# Altium footprint library ACTION_分立元件.PcbLib: 65 footprints (part 4 of 5)
Each footprint in its own frame and in the unit in brackets; x right, y up, seen from the top. Pads: shape width x height; smd on the part's side, far side on the other; paste and mask are expansions set on the pad; w line width, h text height; cw(c..) or ccw(c..) is an arc to the next point about the centre after c.
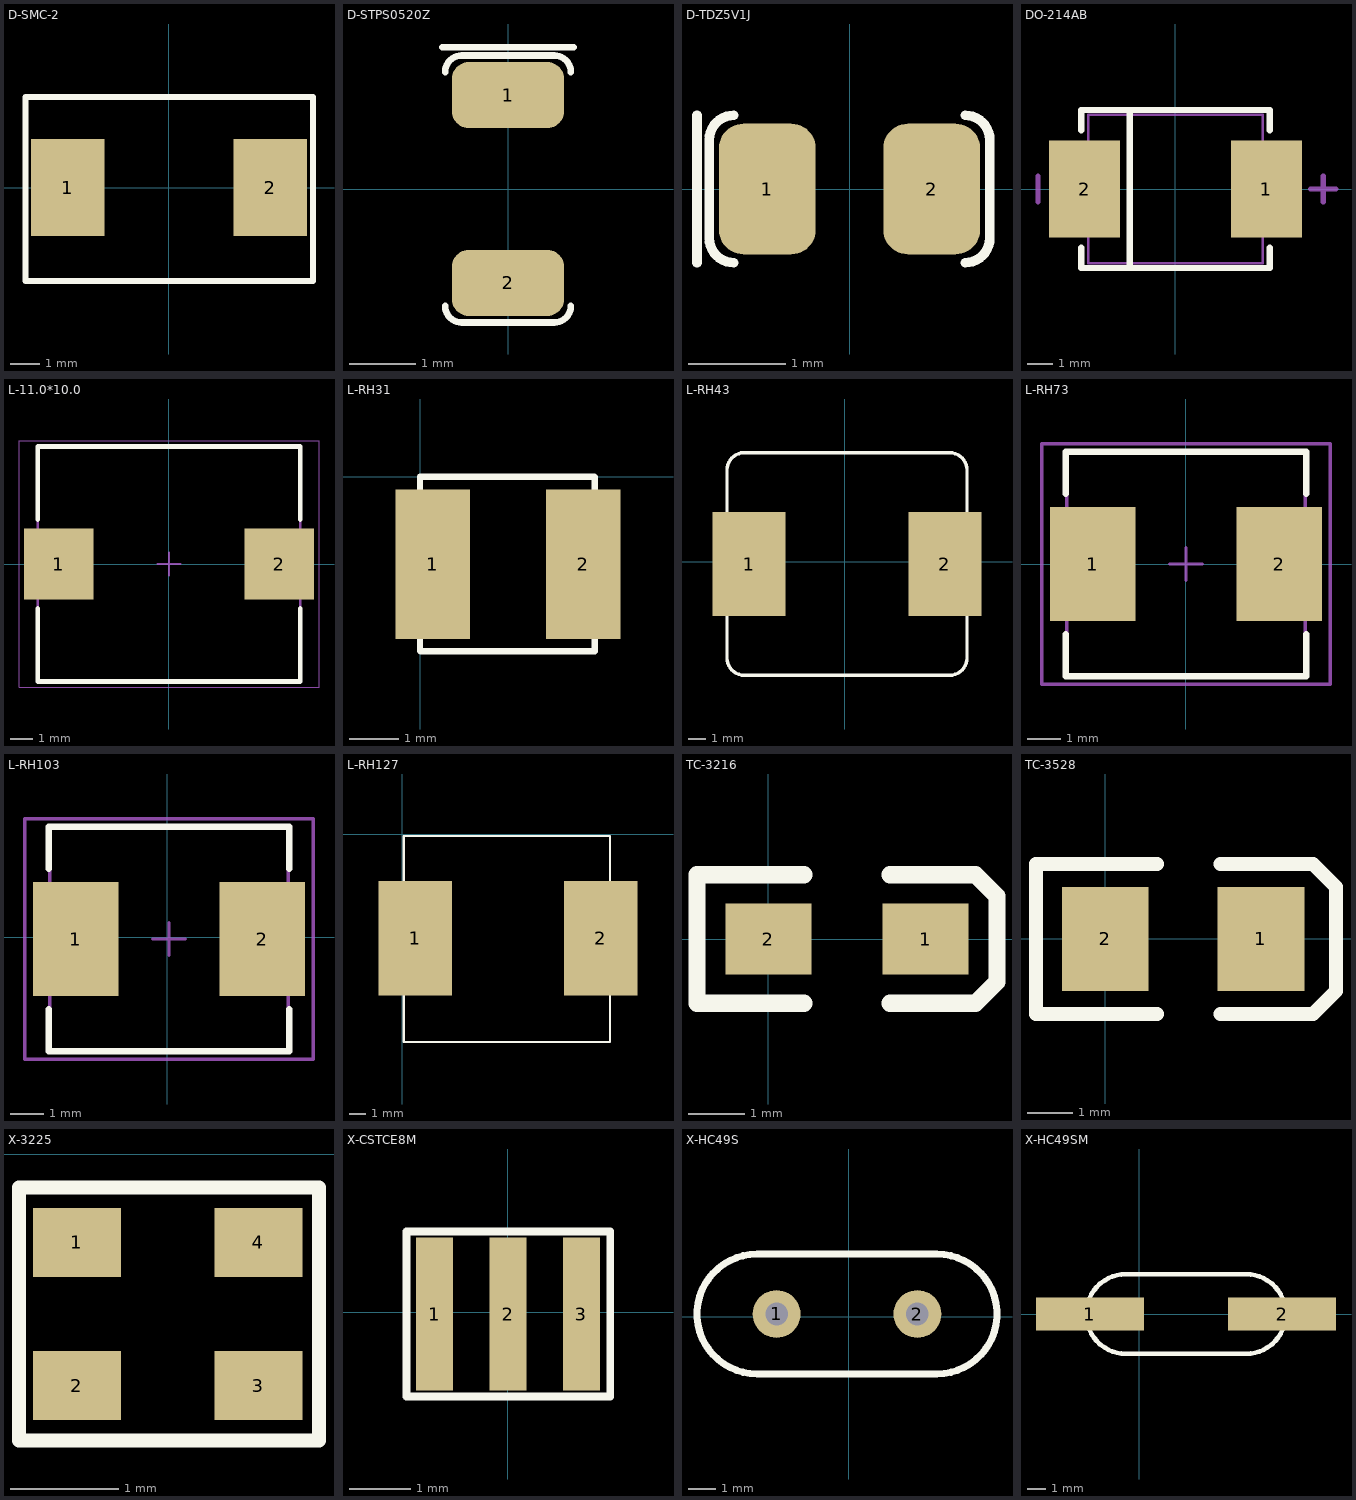
[diagram p3: the footprints below, top view; thin cyan lines are the x and y axes]

## D-SMC-2 [mm]
pads (2):
  rect 2.5x3.3 smd: 1(-3.45,0) 2(3.45,0)
Top Overlay:
  lines w0.2: -4.877,-3.175 4.902,-3.175 4.902,3.073 -4.877,3.073 -4.877,-1.6 -4.877,-3.175
3D body "DO214 SMC.STEP": height 2.27, standoff -0.03, extent -3.899,-3.001 4.051,2.899

## D-STPS0520Z [mm] "肖特基二极管"
pads (2):
  rrect50% 1.7x1 smd: 1(0,1.425) 2(0,-1.425)
Top Overlay:
  lines w0.1: -1,2.152 1,2.152 ; -0.954,-1.771 ccw(c-0.7,-1.771) -0.7,-2.025 0.7,-2.025 ccw(c0.7,-1.771) 0.954,-1.771 ; -0.954,1.771 cw(c-0.7,1.771) -0.7,2.025 0.7,2.025 cw(c0.7,1.771) 0.954,1.771

## D-TDZ5V1J [mm]
pads (2):
  rrect50% 1x1.35 smd: 1(-0.85,0) 2(0.85,0)
Top Overlay:
  lines w0.1: -1.577,-0.762 -1.577,0.762 ; -1.196,-0.762 cw(c-1.196,-0.508) -1.45,-0.508 -1.45,0.508 cw(c-1.196,0.508) -1.196,0.762 ; 1.196,-0.762 ccw(c1.196,-0.508) 1.45,-0.508 1.45,0.508 ccw(c1.196,0.508) 1.196,0.762

## DO-214AB [mil]
pads (2):
  rect 110x150 smd: 1(140.49,0) 2(-140.49,0)
Top Overlay:
  lines w10: -145.67,-90.55 -145.67,-122.05 145.67,-122.05 145.67,-90.55 ; -145.67,90.55 -145.67,122.05 145.67,122.05 145.67,90.55 ; -70.87,-122.05 -70.87,122.05
Mechanical 13:
  lines w3.94: -135.04,-114.96 135.04,-114.96 135.04,114.96 -135.04,114.96 -135.04,-114.96
Mechanical 15:
  lines w8: -212.6,-19.68 -212.6,19.69 ; 208.66,0 248.03,0 ; 228.35,-19.68 228.35,19.69
3D body "SW3dPS-DO-214AB SMC.STEP": height 89.47, standoff -1.18, extent -156.5,-116.13 156.5,116.15

## L-11.0*10.0 [mm] "Precision Wire Wound Inductor, 2-Leads, Body 11.25x10.00mm, IPC Medium Density"
height 5
pads (2):
  rect 3.05x3.1 smd: 1(-4.825,0) 2(4.825,0)
Top Overlay:
  lines w0.2: -5.75,-1.95 -5.75,-5.15 5.75,-5.15 5.75,-1.95 ; -5.75,1.95 -5.75,5.15 5.75,5.15 5.75,1.95
Mechanical 13:
  lines w0.1: -5.75,-5.15 5.75,-5.15 5.75,5.15 -5.75,5.15 -5.75,-5.15
Mechanical 15:
  lines w0.05: -6.575,-5.4 6.575,-5.4 6.575,5.4 -6.575,5.4 -6.575,-5.4
  lines w0.1: -0.5,0 0.5,0 ; 0,-0.5 0,0.5
3D body: height 5, standoff 0, extent -5.75,-5.15 5.75,5.15

## L-RH31 [mm]
pads (2):
  rect 1.5x3 smd: 1(0.254,-1.758) 2(3.282,-1.758)
Top Overlay:
  lines w0.127: 0,-3.5 0,0 3.5,0 ; 0.01,-3.505 3.51,-3.505 3.51,-0.005
3D body: height 1, standoff 0, extent 0,-3.505 3.505,0.025

## L-RH43 [mm]
pads (2):
  rect 4.2x6 smd: 1(-5.498,-0.127) 2(5.752,-0.127)
Top Overlay:
  lines w0.2: -6.773,-3.127 -6.773,-5.527 ccw(c-5.773,-5.527) -5.773,-6.527 6.027,-6.527 ccw(c6.027,-5.527) 7.027,-5.527 7.027,-3.127 ; -6.773,2.873 -6.773,5.273 cw(c-5.773,5.273) -5.773,6.273 ; -5.973,6.273 -5.373,6.273 ; -5.673,6.273 6.027,6.273 cw(c6.027,5.273) 7.027,5.273 7.027,2.873
Mechanical 5:
  lines w0.1: -6.773,-5.527 ccw(c-5.773,-5.527) -5.773,-6.527 ; -6.773,-5.527 ccw(c-5.773,-5.527) -5.773,-6.527 ; -6.773,-5.527 -6.773,5.273 cw(c-5.773,5.273) -5.773,6.273 6.027,6.273 ; -5.773,-6.527 6.027,-6.527 ; 6.027,-6.527 ccw(c6.027,-5.527) 7.027,-5.527 ; 6.027,-6.527 ccw(c6.027,-5.527) 7.027,-5.527 ; 6.027,6.273 cw(c6.027,5.273) 7.027,5.273 ; 6.027,6.273 cw(c6.027,5.273) 7.027,5.273 ; 7.027,-5.527 7.027,5.273
3D body: height 3, standoff 0, extent -6.781,-6.535 7.035,6.281

## L-RH73 [mm] "Molded Capacitor, 2-Leads, Body 6.9x6.5mm, IPC Medium Density"
height 3
pads (2):
  rect 2.6x3.45 smd: 1(-2.815,0.01) 2(2.835,0.01)
Top Overlay:
  lines w0.2: -3.64,-2.115 -3.64,-3.39 3.66,-3.39 3.66,-2.115 ; -3.64,2.135 -3.64,3.41 3.66,3.41 3.66,2.135
Mechanical 13:
  lines w0.1: -3.61,-3.35 3.63,-3.35 3.63,3.37 -3.61,3.37 -3.61,-3.35
Mechanical 15:
  lines w0.1: -0.49,0.01 0.51,0.01 ; 0.01,-0.49 0.01,0.51 ; -4.365,-3.64 4.385,-3.64 4.385,3.66 -4.365,3.66 -4.365,-3.64
3D body: height 3, standoff 0, extent -3.61,-3.35 3.63,3.37

## L-RH103 [mm] "Molded Capacitor, 2-Leads, Body 6.9x6.5mm, IPC Medium Density"
height 3
pads (2):
  rect 2.6x3.45 smd: 1(-2.775,-0.05) 2(2.875,-0.05)
Top Overlay:
  lines w0.2: -3.6,-2.175 -3.6,-3.45 3.7,-3.45 3.7,-2.175 ; -3.6,2.075 -3.6,3.35 3.7,3.35 3.7,2.075
Mechanical 13:
  lines w0.1: -3.57,-3.41 3.67,-3.41 3.67,3.31 -3.57,3.31 -3.57,-3.41
Mechanical 15:
  lines w0.1: -0.45,-0.05 0.55,-0.05 ; 0.05,-0.55 0.05,0.45 ; -4.325,-3.7 4.425,-3.7 4.425,3.6 -4.325,3.6 -4.325,-3.7
3D body: height 3, standoff 0, extent -3.57,-3.41 3.67,3.31

## L-RH127 [mm]
pads (2):
  rect 4.5x7 smd: 1(0.813,-6.35) 2(12.116,-6.35)
Top Overlay:
  lines w0.127: 0.102,-12.675 0.102,-0.102 12.7,-0.102 12.7,-12.675 0.102,-12.675
3D body: height 7, standoff 0, extent 0.025,-12.725 12.802,-0.051

## TC-3216 [mil]
pads (2):
  rect 60x50 smd: 1(110,0) 2(0,0)
Top Overlay:
  lines w12: 25,-45 -50,-45 -50,45 25,45 ; 85,-45 145,-45 160,-30 160,30 145,45 85,45
3D body "STEC_A.step": height 63.39, standoff 0, extent -17.81,-33.5 107.81,29.5

## TC-3528 [mil]
pads (2):
  rect 75x90 smd: 1(135,0) 2(0,0)
Top Overlay:
  lines w12: 45,-65 -60,-65 -60,65 45,65 ; 100,-65 180,-65 200,-45 200,45 180,65 100,65
3D body "STEC_C.step": height 98.82, standoff 0, extent -53.99,-63.98 181.99,62

## X-3225 [mil]
pads (4):
  rect 32x25 smd: 1(43,-32) 2(43,-84) 3(109,-84) 4(109,-32)
Top Overlay:
  lines w5: 22,-104 131,-104 131,-12 22,-12 22,-104
3D body "晶振 (1).STEP": height 50, standoff 1.97, extent 22.13,-101.9 129,-14.1

## X-CSTCE8M [mm]
pads (3):
  rect 0.6x2.5 smd: 1(-1.194,-0.025) 2(0.006,-0.025) 3(1.206,-0.025)
Top Overlay:
  lines w0.127: -1.651,-1.372 -1.651,1.321 1.676,1.321 1.676,-1.372 -1.651,-1.372
3D body: height 1, standoff 0, extent -1.6,-1.067 1.626,0.965

## X-HC49S [mil]
pads (2):
  round 68 hole 32: 1(-102.36,3.94) 2(97.64,3.94)
Top Overlay:
  lines w10: -130.36,-81.07 cw(c-130.36,3.94) -130.36,88.94 125.64,88.94 cw(c125.64,3.94) 125.64,-81.07 -130.36,-81.07
3D body "晶振.STEP": height 118.11, standoff -78.74, extent -235.22,-74.8 237.22,82.68

## X-HC49SM [mil]
height 200
pads (2):
  rect 230x70 smd: 1(-105,0) 2(305,0)
Top Overlay:
  lines w10: -28,-85.01 cw(c-28,0) -28,85.01 228,85.01 cw(c228,0) 228,-85.01 -28,-85.01
3D body "晶振 (2).STEP": height 169.29, standoff 0, extent -150.97,-101.08 352.97,89.08